# Altium schematic symbol library PS2801C-4-F3-A.SchLib: 1 symbol
Pins are listed as number, name and electrical type; pins without a type are passive.

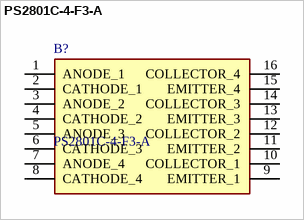
[diagram p0: symbol PS2801C-4-F3-A]

## PS2801C-4-F3-A
designator B?
NEC - PS2801C-4-F3-A - OPTOCOUPLER, 4X TR O/P, SSOP-16; Geometry.Height: 2.3mm; Manufacturer_Name: NEC; Manufacturer_Part_Number: PS2801C-4-F3-A; Arrow Part Number: *; Arrow Price/Stock: *; Datasheet Link: https://componentsearchengine.com/Datasheets/2/PS2801C-4-F3-A.pdf
footprint SOIC127P700X230-16N
pins: 1 ANODE_1, 2 CATHODE_1, 3 ANODE_2, 4 CATHODE_2, 5 ANODE_3, 6 CATHODE_3, 7 ANODE_4, 8 CATHODE_4, 9 EMITTER_1, 10 COLLECTOR_1, 11 EMITTER_2, 12 COLLECTOR_2, 13 EMITTER_3, 14 COLLECTOR_3, 15 EMITTER_4, 16 COLLECTOR_4